# Altium footprint library 570BAB000544DG.PcbLib: 1 footprints
Each footprint in its own frame and in the unit in brackets; x right, y up, seen from the top. Pads: shape width x height; smd on the part's side, far side on the other; paste and mask are expansions set on the pad; w line width, h text height; cw(c..) or ccw(c..) is an arc to the next point about the centre after c.
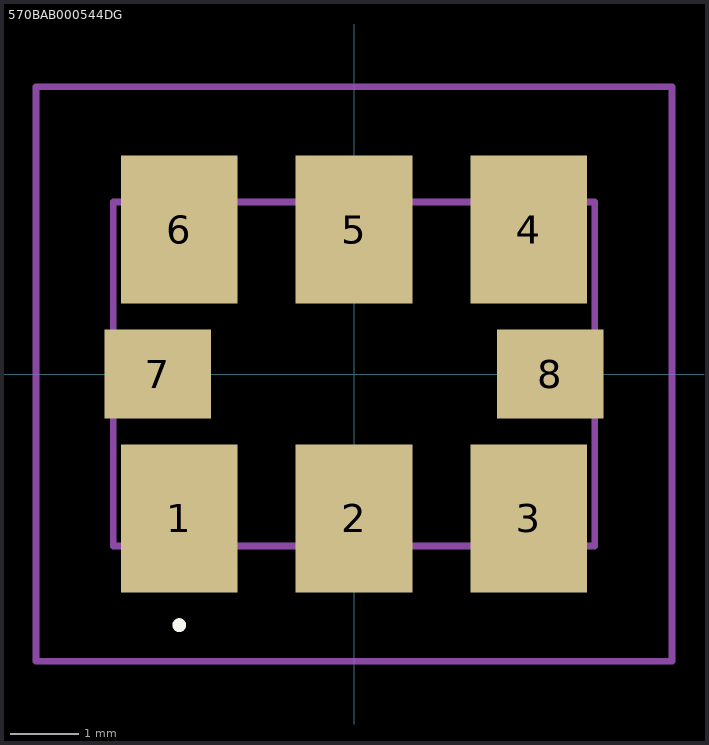
[diagram p0: the footprint, top view; thin cyan lines are the x and y axes]

## 570BAB000544DG [mm]
pads (8):
  rect 1.7x2.15 smd: 1(-2.54,-2.1) 2(0,-2.1) 3(2.54,-2.1) 4(2.54,2.1) 5(0,2.1) 6(-2.54,2.1)
  rect 1.545x1.3 smd: 7(-2.853,0) 8(2.853,0)
Top Overlay:
  lines w0.1: -2.54,-3.7 cw(c-2.54,-3.65) -2.54,-3.6 ; -2.54,-3.7 -2.54,-3.7 ; -2.54,-3.7 ccw(c-2.54,-3.65) -2.54,-3.6 ; -2.54,-3.6 -2.54,-3.6
Mechanical 15:
  lines w0.1: -3.5,-2.5 3.5,-2.5 3.5,2.5 -3.5,2.5 -3.5,-2.5
Mechanical 20:
  lines w0.1: -4.625,-4.175 4.625,-4.175 4.625,4.175 -4.625,4.175 -4.625,-4.175